# EAGLE library part MAG_BREAKOUT (library REEF_LIB)
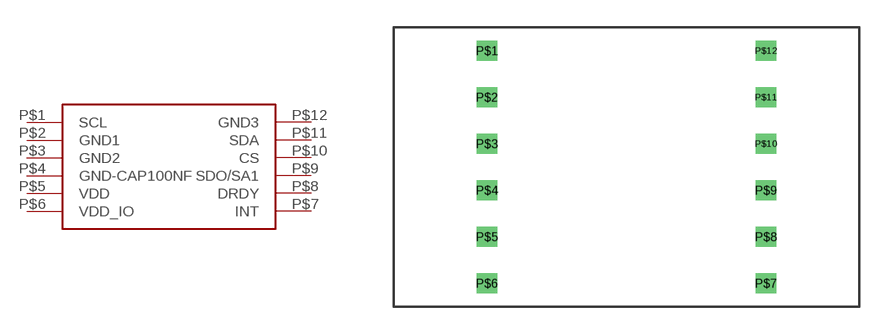
[diagram p6: symbol with the pads of DIP12_SPECIAL; footprint DIP12_SPECIAL]

Designator prefix -

## MAG_BREAKOUT  [DIP12_SPECIAL]
P$1  SCL
P$2  GND1
P$3  GND2
P$4  GND-CAP100NF
P$5  VDD
P$6  VDD_IO
P$7  INT
P$8  DRDY
P$9  SDO/SA1
P$10  CS
P$11  SDA
P$12  GND3

## Footprint DIP12_SPECIAL (pad centres in mm)
drill 0.6 square: P$1 2.54,12.7; P$2 2.54,10.16; P$3 2.54,7.62; P$4 2.54,5.08; P$5 2.54,2.54; P$6 2.54,0; P$7 17.78,0; P$8 17.78,2.54; P$9 17.78,5.08; P$10 17.78,7.62; P$11 17.78,10.16; P$12 17.78,12.7